# Altium footprint library DF51KB-6DP-2DS(800).PcbLib: 1 footprints
Each footprint in its own frame and in the unit in brackets; x right, y up, seen from the top. Pads: shape width x height; smd on the part's side, far side on the other; paste and mask are expansions set on the pad; w line width, h text height; cw(c..) or ccw(c..) is an arc to the next point about the centre after c.
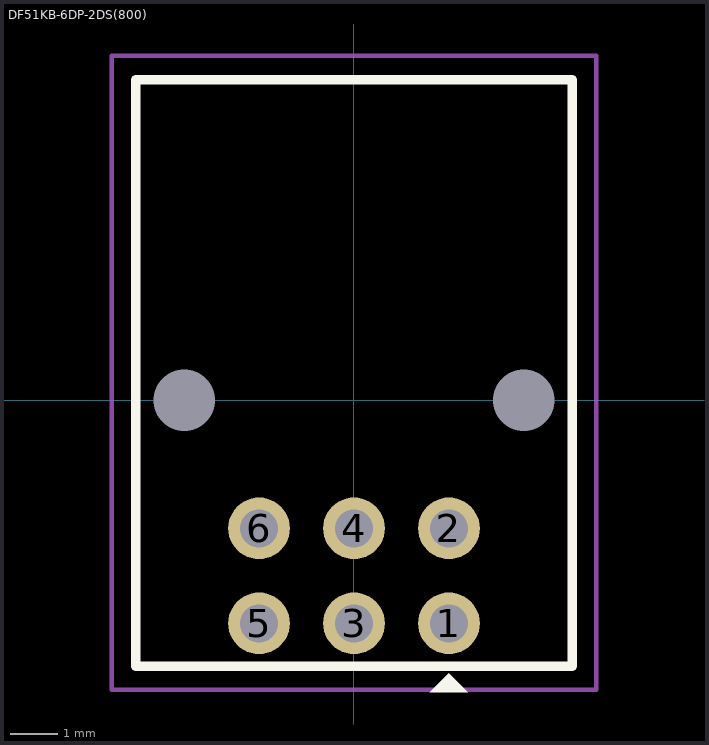
[diagram p0: the footprint, top view; thin cyan lines are the x and y axes]

## DF51KB-6DP-2DS(800) [mm]
pads (8):
  round 1.3 hole 0.8: 1(2,-4.7) 2(2,-2.7) 3(0,-4.7) 4(0,-2.7) 5(-2,-4.7) 6(-2,-2.7)
  round 0 hole 1.3 unplated paste-2539.97 mask+0: ""(-3.575,0) ""(3.575,0)
Top Overlay:
  region: 2.4,-6.15 1.6,-6.15 2,-5.75
  lines w0.2: -4.6,-5.6 -4.6,6.75 4.6,6.75 4.6,-5.6 -4.6,-5.6
Top Courtyard:
  lines w0.1: -5.1,-6.1 -4.6,-6.1 5.1,-6.1 5.1,7.25 -5.1,7.25 -5.1,-6.1
3D body "DF51KB-6DP-2DS_4800593000_3D.stp": height 8.62, standoff -3.13, extent -4.6,-5.15 4.6,6.75